# Altium footprint library SparkFun-IC-Logic.PCBLIB: 11 footprints
Each footprint in its own frame and in the unit in brackets; x right, y up, seen from the top. Pads: shape width x height; smd on the part's side, far side on the other; paste and mask are expansions set on the pad; w line width, h text height; cw(c..) or ccw(c..) is an arc to the next point about the centre after c.
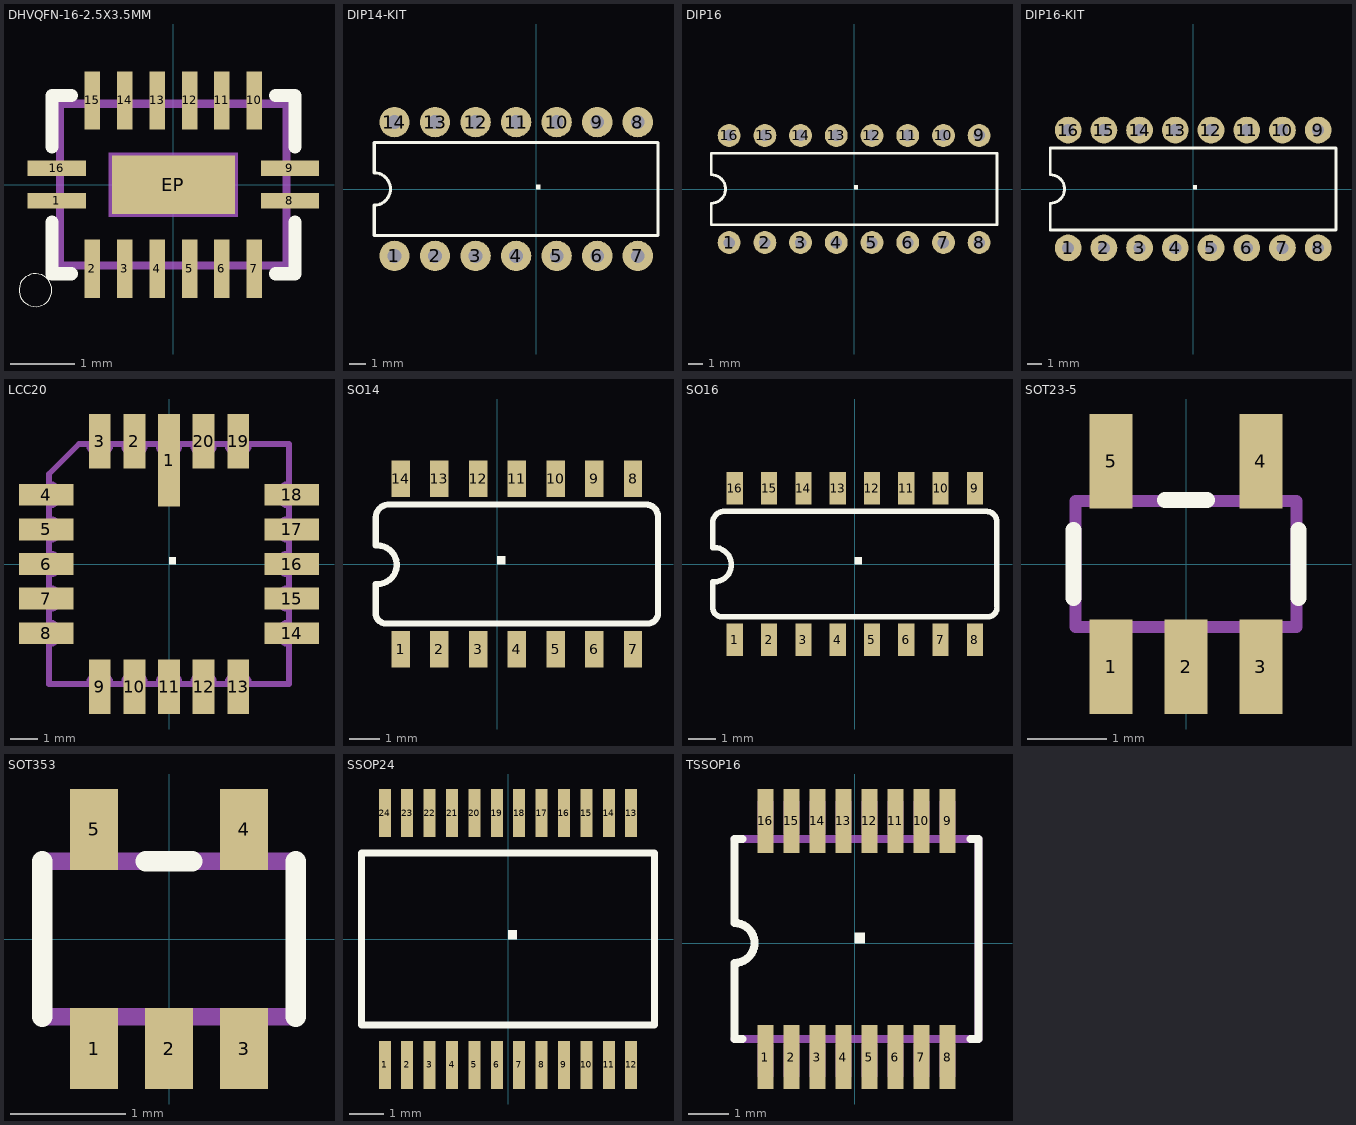
[diagram p0: the footprints below, top view; thin cyan lines are the x and y axes]

## DHVQFN-16-2.5X3.5MM [mil]
pads (17):
  rect 35.43x9.45 smd: 1(-70.87,-9.84) 8(70.87,-9.84) 9(70.87,9.84) 16(-70.87,9.84)
  rect 9.45x35.43 smd: 2(-49.21,-51.18) 3(-29.53,-51.18) 4(-9.84,-51.18) 5(9.84,-51.18) 6(29.53,-51.18) 7(49.21,-51.18) 10(49.21,51.18) 11(29.53,51.18) 12(9.84,51.18) 13(-9.84,51.18) 14(-29.53,51.18) 15(-49.21,51.18)
  rect 74.8x35.43 smd: EP(0,0)
Top Overlay:
  circle w0: c-83.9,-64.21 r10
  lines w8: -73.9,-22.79 -73.9,-54.21 -62.1,-54.21 ; -73.9,22.79 -73.9,54.21 -62.1,54.21 ; 62.1,-54.21 73.9,-54.21 73.9,-22.79 ; 62.1,54.21 73.9,54.21 73.9,22.79
Top Paste:
  rectangle: 5.91,-7.87 21.65,7.87
  region: -5.91,7.87 -21.65,7.87 -21.65,-7.87 -5.91,-7.87
  rectangle: 54.13,6.1 87.6,13.58
  rectangle: 54.13,-13.58 87.6,-6.1
  region: 45.47,-34.45 45.47,-67.91 52.95,-67.91 52.95,-34.45
  region: 25.79,-34.45 25.79,-67.91 33.27,-67.91 33.27,-34.45
  region: 6.1,-34.45 6.1,-67.91 13.58,-67.91 13.58,-34.45
  region: -13.58,-34.45 -13.58,-67.91 -6.1,-67.91 -6.1,-34.45
  region: -33.27,-34.45 -33.27,-67.91 -25.79,-67.91 -25.79,-34.45
  region: -52.95,-34.45 -52.95,-67.91 -45.47,-67.91 -45.47,-34.45
  region: -54.13,-6.1 -87.6,-6.1 -87.6,-13.58 -54.13,-13.58
  region: -54.13,13.58 -87.6,13.58 -87.6,6.1 -54.13,6.1
  region: -45.47,34.45 -45.47,67.91 -52.95,67.91 -52.95,34.45
  region: -25.79,34.45 -25.79,67.91 -33.27,67.91 -33.27,34.45
  region: -6.1,34.45 -6.1,67.91 -13.58,67.91 -13.58,34.45
  region: 13.58,34.45 13.58,67.91 6.1,67.91 6.1,34.45
  region: 33.27,34.45 33.27,67.91 25.79,67.91 25.79,34.45
  region: 52.95,34.45 52.95,67.91 45.47,67.91 45.47,34.45
Mechanical 16:
  rectangle: -39.37,-19.69 39.37,19.69
  region: 0,0 10,0 10,10 0,10
  region: 0,0 10,0 10,10 0,10
  region: 0,0 10,0 10,10 0,10
  region: 0,0 10,0 10,10 0,10
  region: 0,0 10,0 10,10 0,10
  region: 0,0 10,0 10,10 0,10
  region: 0,0 10,0 10,10 0,10
  region: 0,0 10,0 10,10 0,10
  region: 0,0 10,0 10,10 0,10
  region: 0,0 10,0 10,10 0,10
  region: 0,0 10,0 10,10 0,10
  region: 0,0 10,0 10,10 0,10
  region: 0,0 10,0 10,10 0,10
  region: 0,0 10,0 10,10 0,10
  region: 0,0 10,0 10,10 0,10
  region: 0,0 10,0 10,10 0,10
  lines w5: -68.9,-49.21 -68.9,49.21 68.9,49.21 68.9,-49.21 -68.9,-49.21

## DIP14-KIT [mil]
pads (14):
  round 75 hole 34: 1(-350,-165) 2(-250,-165) 3(-150,-165) 4(-50,-165) 5(50,-165) 6(150,-165) 7(250,-165) 8(250,165) 9(150,165) 10(50,165) 11(-50,165) 12(-150,165) 13(-250,165) 14(-350,165)
Top Overlay:
  region: 0,0 10,0 10,10 0,10
  lines w8: -400,-115 -400,-40 ccw(c-400,0) -400,40 -400,115 300,115 300,-115 -400,-115
Top Solder:
  circle w0: c-350,165 r17
  circle w0: c-350,-165 r17
  circle w0: c-250,165 r17
  circle w0: c-250,-165 r17
  circle w0: c-150,165 r17
  circle w0: c-150,-165 r17
  circle w0: c-50,165 r17
  circle w0: c-50,-165 r17
  circle w0: c50,165 r17
  circle w0: c50,-165 r17
  circle w0: c150,165 r17
  circle w0: c150,-165 r17
  circle w0: c250,165 r17
  circle w0: c250,-165 r17
Bottom Solder:
  circle w0: c-350,165 r42
  circle w0: c-350,-165 r42
  circle w0: c-250,165 r42
  circle w0: c-250,-165 r42
  circle w0: c-150,165 r42
  circle w0: c-150,-165 r42
  circle w0: c-50,165 r42
  circle w0: c-50,-165 r42
  circle w0: c50,165 r42
  circle w0: c50,-165 r42
  circle w0: c150,165 r42
  circle w0: c150,-165 r42
  circle w0: c250,165 r42
  circle w0: c250,-165 r42

## DIP16 [mil]
pads (16):
  round 64 hole 32: 1(-350,-150) 2(-250,-150) 3(-150,-150) 4(-50,-150) 5(50,-150) 6(150,-150) 7(250,-150) 8(350,-150) 9(350,150) 10(250,150) 11(150,150) 12(50,150) 13(-50,150) 14(-150,150) 15(-250,150) 16(-350,150)
Top Overlay:
  region: 0,0 10,0 10,10 0,10
  lines w8: -400,-100 400,-100 400,100 -400,100 -400,40 cw(c-400,0) -400,-40 -400,-100

## DIP16-KIT [mil]
pads (16):
  round 75 hole 34: 1(-350,-165) 2(-250,-165) 3(-150,-165) 4(-50,-165) 5(50,-165) 6(150,-165) 7(250,-165) 8(350,-165) 9(350,165) 10(250,165) 11(150,165) 12(50,165) 13(-50,165) 14(-150,165) 15(-250,165) 16(-350,165)
Top Overlay:
  region: 0,0 10,0 10,10 0,10
  lines w8: -400,-115 -400,-40 ccw(c-400,0) -400,40 -400,115 400,115 400,-115 -400,-115
Top Solder:
  circle w0: c-150,165 r17
  circle w0: c-50,165 r17
  circle w0: c50,165 r17
  circle w0: c150,165 r17
  circle w0: c250,165 r17
  circle w0: c350,165 r17
  circle w0: c350,-165 r17
  circle w0: c-250,-165 r17
  circle w0: c-150,-165 r17
  circle w0: c-50,-165 r17
  circle w0: c50,-165 r17
  circle w0: c150,-165 r17
  circle w0: c250,-165 r17
  circle w0: c-350,-165 r17
  circle w0: c-150,165 r17
  circle w0: c-150,165 r17
  circle w0: c-250,165 r17
  circle w0: c-350,165 r17
Bottom Solder:
  circle w0: c-150,165 r42
  circle w0: c-50,165 r42
  circle w0: c50,165 r42
  circle w0: c150,165 r42
  circle w0: c250,165 r42
  circle w0: c350,165 r42
  circle w0: c350,-165 r42
  circle w0: c150,-165 r42
  circle w0: c250,-165 r42
  circle w0: c50,-165 r42
  circle w0: c-50,-165 r42
  circle w0: c-150,-165 r42
  circle w0: c-250,-165 r42
  circle w0: c-350,-165 r42
  circle w0: c-250,165 r42
  circle w0: c-350,165 r42

## LCC20 [mil]
pads (20):
  rect 31.5x133.86 smd: 1(0,149.61)
  rect 31.5x78.74 smd: 2(-50,177.17) 3(-100,177.17) 9(-100,-177.17) 10(-50,-177.17) 11(0,-177.17) 12(50,-177.17) 13(100,-177.17) 19(100,177.17) 20(50,177.17)
  rect 78.74x31.5 smd: 4(-177.17,100) 5(-177.17,50) 6(-177.17,0) 7(-177.17,-50) 8(-177.17,-100) 14(177.17,-100) 15(177.17,-50) 16(177.17,0) 17(177.17,50) 18(177.17,100)
Top Overlay:
  region: 0,0 10,0 10,10 0,10
Mechanical 16:
  lines w8: -173.23,-173.62 -173.23,-173.23 ; -173.23,-115.75 -173.23,-173.23 ; -173.23,-84.25 -173.23,-65.75 ; -173.23,-34.25 -173.23,-15.75 ; -173.23,15.75 -173.23,34.25 ; -173.23,65.75 -173.23,84.25 ; -173.23,115.75 -173.23,129.92 -129.92,173.23 -115.75,173.23 ; -173.17,-115.75 ccw(c-173.17,-100) -173.17,-84.25 ; -173.17,-65.75 ccw(c-173.17,-50) -173.17,-34.25 ; -173.17,-15.75 ccw(c-173.17,0) -173.17,15.75 ; -173.17,34.25 ccw(c-173.17,50) -173.17,65.75 ; -173.17,84.25 ccw(c-173.17,100) -173.17,115.75 ; -115.75,-173.23 -173.23,-173.23 ; -115.75,-173.17 cw(c-100,-173.17) -84.25,-173.17 ; -115.75,173.17 ccw(c-100,173.17) -84.25,173.17 ; -84.25,-173.23 -65.75,-173.23 ; -84.25,173.23 -65.75,173.23 ; -65.75,-173.17 cw(c-50,-173.17) -34.25,-173.17 ; -65.75,173.17 ccw(c-50,173.17) -34.25,173.17 ; -34.25,-173.23 -15.75,-173.23 ; -34.25,173.23 -15.75,173.23 ; -15.75,-173.17 cw(c0,-173.17) 15.75,-173.17 ; -15.75,173.17 ccw(c0,173.17) 15.75,173.17 ; 15.75,-173.23 34.25,-173.23 ; 15.75,173.23 34.25,173.23 ; 34.25,-173.17 cw(c50,-173.17) 65.75,-173.17 ; 34.25,173.17 ccw(c50,173.17) 65.75,173.17 ; 65.75,-173.23 84.25,-173.23 ; 65.75,173.23 84.25,173.23 ; 84.25,-173.17 cw(c100,-173.17) 115.75,-173.17 ; 84.25,173.17 ccw(c100,173.17) 115.75,173.17 ; 115.75,-173.23 173.23,-173.23 173.23,-115.75 ; 115.75,173.23 173.23,173.23 173.23,115.75 ; 173.17,-115.75 cw(c173.17,-100) 173.17,-84.25 ; 173.17,-65.75 cw(c173.17,-50) 173.17,-34.25 ; 173.17,-15.75 cw(c173.17,0) 173.17,15.75 ; 173.17,34.25 cw(c173.17,50) 173.17,65.75 ; 173.17,84.25 cw(c173.17,100) 173.17,115.75 ; 173.23,-84.25 173.23,-65.75 ; 173.23,-34.25 173.23,-15.75 ; 173.23,15.75 173.23,34.25 ; 173.23,65.75 173.23,84.25

## SO14 [mil]
pads (14):
  rect 23.62x47.24 smd: 1(-125,-110.24) 2(-75,-110.24) 3(-25,-110.24) 4(25,-110.24) 5(75,-110.24) 6(125,-110.24) 7(175,-110.24) 8(175,110.24) 9(125,110.24) 10(75,110.24) 11(25,110.24) 12(-25,110.24) 13(-75,110.24) 14(-125,110.24)
Top Overlay:
  region: 0,0 10,0 10,10 0,10
  lines w8: -157,-26 -157,-65.56 ccw(c-143.97,-63.6) -142,-76.63 195.94,-76.63 ccw(c193.97,-63.6) 207,-61.63 207,61.63 ccw(c192,61.63) 192,76.63 -142,76.63 ccw(c-140.03,59.66) -157,57.69 ; -157,24 -157,57.19 ; -155,-26 ccw(c-155,-1) -155,24
Mechanical 16:
  rectangle: -135,-130 -115,-89.5
  rectangle: -85,-130 -65,-89.5
  rectangle: -35,-130 -15,-89.5
  rectangle: 15,-130 35,-89.5
  rectangle: 65,-130 85,-89.5
  rectangle: 115,-130 135,-89.5
  rectangle: 165,-130 185,-89.5
  rectangle: -85,90 -65,130
  rectangle: -35,90 -15,130
  rectangle: 15,90 35,130
  rectangle: 65,90 85,130
  rectangle: 115,90 135,130
  rectangle: 165,90 185,130
  rectangle: -135,90 -115,130

## SO16 [mil]
pads (16):
  rect 23.62x47.24 smd: 1(-175,-110.24) 2(-125,-110.24) 3(-75,-110.24) 4(-25,-110.24) 5(25,-110.24) 6(75,-110.24) 7(125,-110.24) 8(175,-110.24) 9(175,110.24) 10(125,110.24) 11(75,110.24) 12(25,110.24) 13(-25,110.24) 14(-75,110.24) 15(-125,110.24) 16(-175,110.24)
Top Overlay:
  region: 0,0 10,0 10,10 0,10
  lines w8: -207,-26 -207,-65.56 ccw(c-193.97,-63.6) -192,-76.63 195.94,-76.63 ccw(c193.97,-63.6) 207,-61.63 207,61.63 ccw(c192,61.63) 192,76.63 -192,76.63 ccw(c-190.03,59.66) -207,57.69 ; -207,24 -207,57.19 ; -205,-26 ccw(c-205,-1) -205,24
Mechanical 16:
  rectangle: -185,-130 -165,-89.5
  rectangle: -135,-130 -115,-89.5
  rectangle: -85,-130 -65,-89.5
  rectangle: -35,-130 -15,-89.5
  rectangle: 15,-130 35,-89.5
  rectangle: 65,-130 85,-89.5
  rectangle: 115,-130 135,-89.5
  rectangle: 165,-130 185,-89.5
  rectangle: -135,90 -115,130
  rectangle: -85,90 -65,130
  rectangle: -35,90 -15,130
  rectangle: 15,90 35,130
  rectangle: 65,90 85,130
  rectangle: 115,90 135,130
  rectangle: 165,90 185,130
  rectangle: -185,90 -165,130

## SOT23-5 [mil]
pads (5):
  rect 21.65x47.24 smd: 1(-37.4,-51.19) 2(0,-51.19) 3(37.4,-51.19) 4(37.4,51.19) 5(-37.4,51.19)
Top Overlay:
  lines w8: -56,-16.91 -56,16.91 ; -10.57,31.91 10.57,31.91 ; 56,-16.91 56,16.91
Mechanical 16:
  rectangle: -47.24,-59.06 -27.56,-33.46
  rectangle: -9.84,-59.06 9.84,-33.46
  rectangle: 27.56,-59.06 47.24,-33.46
  rectangle: 27.56,33.46 47.24,59.06
  rectangle: -47.24,33.46 -27.56,59.06
  lines w6: -55.12,-31.5 55.12,-31.5 55.12,31.5 -55.12,31.5 -55.12,-31.5

## SOT353 [mm]
pads (5):
  rect 0.42x0.7 smd: 1(-0.65,-0.95) 2(0,-0.95) 3(0.65,-0.95) 4(0.65,0.95) 5(-0.65,0.95)
Top Overlay:
  lines w0.178: -1.1,-0.675 -1.1,0.675 ; -0.2,0.675 0.2,0.675 ; 1.1,-0.675 1.1,0.675
Mechanical 16:
  rectangle: 0.5,0.7 0.8,1.1
  rectangle: -0.8,0.7 -0.5,1.1
  region: 0.8,-0.7 0.5,-0.7 0.5,-1.1 0.8,-1.1
  region: 0.15,-0.7 -0.15,-0.7 -0.15,-1.1 0.15,-1.1
  region: -0.5,-0.7 -0.8,-0.7 -0.8,-1.1 -0.5,-1.1
  lines w0.152: -1.1,-0.675 -1.1,0.675 1.1,0.675 1.1,-0.675 -1.1,-0.675

## SSOP24 [mil]
pads (24):
  rect 13.7x55 smd: 1(-140.75,-143.94) 2(-115.16,-143.94) 3(-89.57,-143.94) 4(-63.98,-143.94) 5(-38.39,-143.94) 6(-12.8,-143.94) 7(12.8,-143.94) 8(38.39,-143.94) 9(63.98,-143.94) 10(89.57,-143.94) 11(115.16,-143.94) 12(140.75,-143.94) 13(140.75,143.94) 14(115.16,143.94) 15(89.57,143.94) 16(63.98,143.94) 17(38.39,143.94) 18(12.8,143.94) 19(-12.8,143.94) 20(-38.39,143.94) 21(-63.98,143.94) 22(-89.57,143.94) 23(-115.16,143.94) 24(-140.75,143.94)
Top Overlay:
  region: 0,0 10,0 10,10 0,10
  lines w8: -167.32,-98.43 167.32,-98.43 167.32,98.43 -167.32,98.43 -167.32,-98.43

## TSSOP16 [mil]
pads (16):
  rect 15.75x62.99 smd: 1(-87.6,-112.2) 2(-62.01,-112.2) 3(-36.42,-112.2) 4(-10.83,-112.2) 5(14.76,-112.2) 6(40.35,-112.2) 7(65.94,-112.2) 8(91.54,-112.2) 9(91.54,120.08) 10(65.94,120.08) 11(40.35,120.08) 12(14.76,120.08) 13(-10.83,120.08) 14(-36.42,120.08) 15(-62.01,120.08) 16(-87.6,120.08)
Top Overlay:
  region: 0,0 10,0 10,10 0,10
  lines w8: -110.24,-94.49 -118.11,-94.49 -118.11,-19.69 ccw(c-118.11,0) -118.11,19.69 -118.11,102.36 -110.24,102.36 ; 114.17,-94.49 122.05,-94.49 122.05,102.36 114.17,102.36
Mechanical 16:
  rectangle: -95.47,-131.89 -79.72,-99.6
  rectangle: -69.88,-131.89 -54.13,-99.6
  rectangle: -44.29,-131.89 -28.54,-99.6
  rectangle: -18.7,-131.89 -2.95,-99.6
  rectangle: 6.89,-131.89 22.64,-99.6
  rectangle: 32.48,-131.89 48.23,-99.6
  rectangle: 58.07,-131.89 73.82,-99.6
  rectangle: 83.66,-131.89 99.41,-99.6
  rectangle: 83.66,107.48 99.41,139.77
  rectangle: 58.07,107.48 73.82,139.77
  rectangle: 32.48,107.48 48.23,139.77
  rectangle: 6.89,107.48 22.64,139.77
  rectangle: -18.7,107.48 -2.95,139.77
  rectangle: -44.29,107.48 -28.54,139.77
  rectangle: -69.88,107.48 -54.13,139.77
  rectangle: -95.47,107.48 -79.72,139.77
  rectangle: -95.47,-131.89 -79.72,-99.6
  rectangle: -69.88,-131.89 -54.13,-99.6
  rectangle: -44.29,-131.89 -28.54,-99.6
  rectangle: -18.7,-131.89 -2.95,-99.6
  rectangle: 6.89,-131.89 22.64,-99.6
  rectangle: 32.48,-131.89 48.23,-99.6
  rectangle: 58.07,-131.89 73.82,-99.6
  rectangle: 83.66,-131.89 99.41,-99.6
  rectangle: 83.66,107.48 99.41,139.77
  rectangle: 58.07,107.48 73.82,139.77
  rectangle: 32.48,107.48 48.23,139.77
  rectangle: 6.89,107.48 22.64,139.77
  rectangle: -18.7,107.48 -2.95,139.77
  rectangle: -44.29,107.48 -28.54,139.77
  rectangle: -69.88,107.48 -54.13,139.77
  rectangle: -95.47,107.48 -79.72,139.77
  lines w8: -118.11,-94.49 122.05,-94.49 122.05,102.36 -118.11,102.36